# EAGLE library part TINY328_14+14 (library Tiny328)
Tiny328 ATmega328P and RFM12B wireless node, without FTDI or input pins, with silkscreen. http://nathan.chantrell.net/tiny328
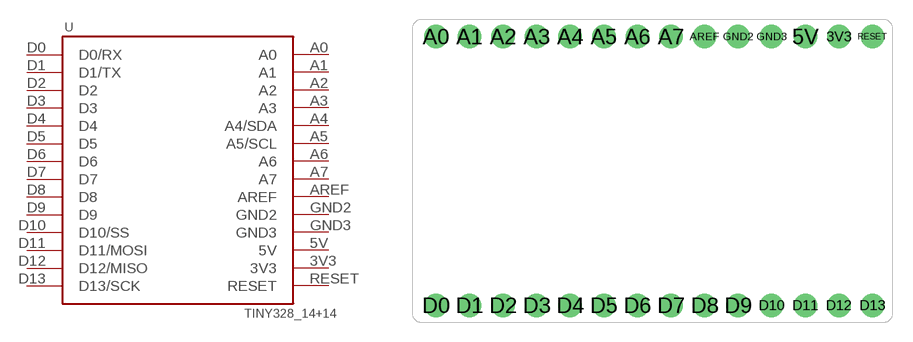
[diagram p1: symbol with the pads of TINY328_14+14; footprint TINY328_14+14]

Designator prefix -

## TINY328_14+14  [TINY328_14+14]
3V3  3V3
5V  5V
A0  A0
A1  A1
A2  A2
A3  A3
A4  A4/SDA
A5  A5/SCL
A6  A6
A7  A7
AREF  AREF
D0  D0/RX
D1  D1/TX
D2  D2
D3  D3
D4  D4
D5  D5
D6  D6
D7  D7
D8  D8
D9  D9
D10  D10/SS
D11  D11/MOSI
D12  D12/MISO
D13  D13/SCK
GND2  GND2
GND3  GND3
RESET  RESET

## Footprint TINY328_14+14 (pad centres in mm)
drill 1.016 pad 1.778: 3V3 13.97,10.16; 5V 11.43,10.16; A0 -16.51,10.16; A1 -13.97,10.16; A2 -11.43,10.16; A3 -8.89,10.16; A4 -6.35,10.16; A5 -3.81,10.16; A6 -1.27,10.16; A7 1.27,10.16; AREF 3.81,10.16; D0 -16.51,-10.16; D1 -13.97,-10.16; D2 -11.43,-10.16; D3 -8.89,-10.16; D4 -6.35,-10.16; D5 -3.81,-10.16; D6 -1.27,-10.16; D7 1.27,-10.16; D8 3.81,-10.16; D9 6.35,-10.16; D10 8.89,-10.16; D11 11.43,-10.16; D12 13.97,-10.16; D13 16.51,-10.16; GND2 6.35,10.16; GND3 8.89,10.16; RESET 16.51,10.16